# EAGLE library part LDQ-M284RI (library 000_ICS_2021)
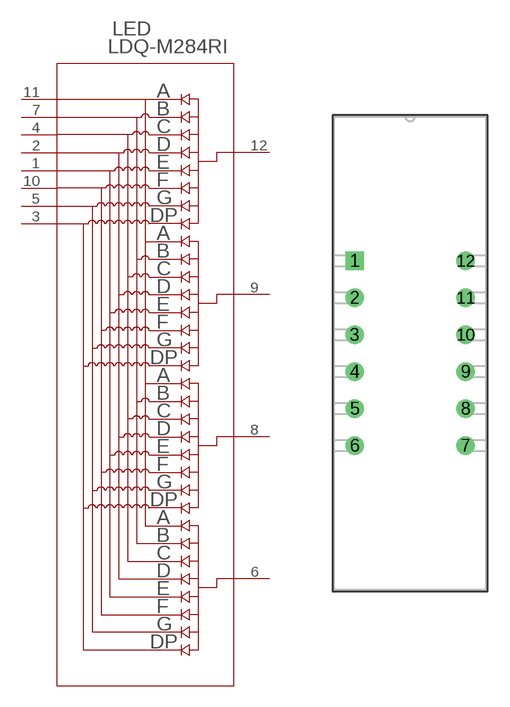
[diagram p15: symbol with the pads of LDQ-M284RI_LUM; footprint LDQ-M284RI_LUM]

Designator prefix LED

## LDQ-M284RI (COPYRIGHT: Copyright (C) 2023 Ultra Librarian. All rights reserved.; MANUFACTURER_PART_NUMBER: LDQ-M284RI; MFR_NAME: Lumex)  [LDQ-M284RI_LUM]
1  1  pas
2  2  pas
3  3  pas
4  4  pas
5  5  pas
6  6  pas
7  7  pas
8  8  pas
9  9  pas
10  10  pas
11  11  pas
12  12  pas

## Footprint LDQ-M284RI_LUM (pad centres in mm)
drill 0.762 pad 1.27 square: 1 0,0
drill 0.762 pad 1.27: 2 0,-2.54; 3 0,-5.08; 4 0,-7.62; 5 0,-10.16; 6 0,-12.7; 7 7.62,-12.7; 8 7.62,-10.16; 9 7.62,-7.62; 10 7.62,-5.08; 11 7.62,-2.54; 12 7.62,0